# Altium footprint library DS1307.PcbLib: 1 footprints
Each footprint in its own frame and in the unit in brackets; x right, y up, seen from the top. Pads: shape width x height; smd on the part's side, far side on the other; paste and mask are expansions set on the pad; w line width, h text height; cw(c..) or ccw(c..) is an arc to the next point about the centre after c.
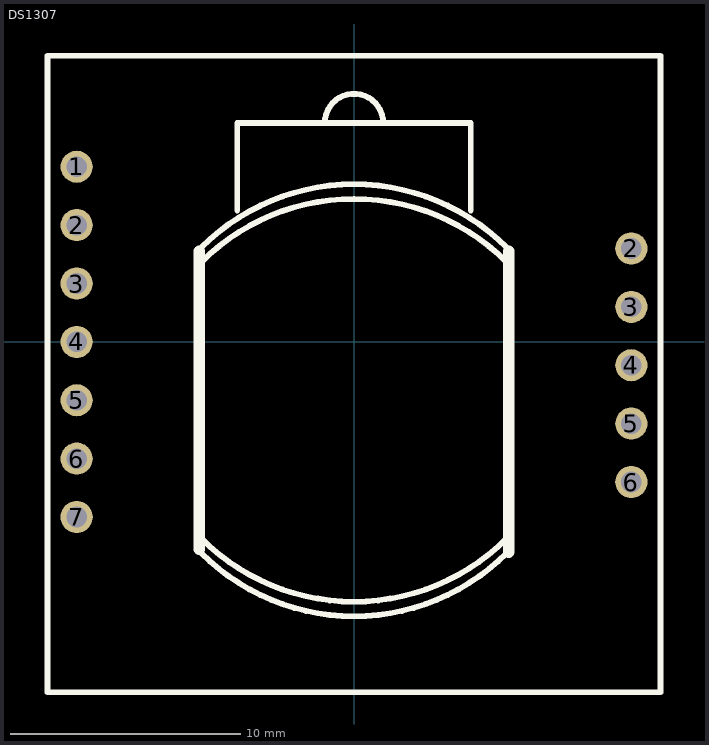
[diagram p0: the footprint, top view; thin cyan lines are the x and y axes]

## DS1307 [mm]
pads (12):
  round 1.4 hole 0.9: 1(-12.065,7.62) 2(-12.065,5.08) 2(12.065,4.064) 3(-12.065,2.54) 3(12.065,1.524) 4(-12.065,0) 4(12.065,-1.016) 5(-12.065,-2.54) 5(12.065,-3.556) 6(-12.065,-5.08) 6(12.065,-6.096) 7(-12.065,-7.62)
Top Overlay:
  lines w0.254: -13.335,-15.24 13.335,-15.24 13.335,12.439 ; -13.335,-15.233 -13.335,12.446 13.335,12.446 ; -6.645,-9.185 ccw(c0,-2.54) 6.645,-9.185 ; -6.645,-8.55 ccw(c0,-1.905) 6.645,-8.55 ; -6.645,3.47 cw(c0,-3.175) 6.645,3.47 ; -6.645,4.105 cw(c0,-2.54) 6.645,4.105 ; -5.08,5.715 -5.08,9.525 5.08,9.525 5.08,5.715 ; -1.27,9.525 cw(c0,9.525) 1.27,9.525
  lines w0.508: -6.731,-9.017 -6.731,3.937 ; 6.731,-9.144 6.731,3.937